# EAGLE library part IS31FL3236A (library LED-Project)
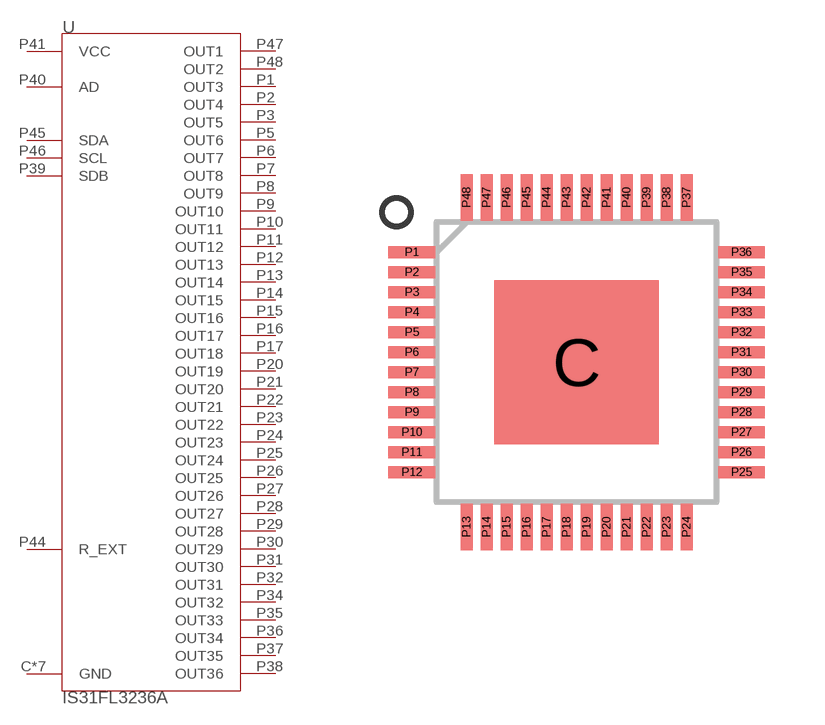
[diagram p0: symbol with the pads of ETQFP-48; footprint ETQFP-48]

Designator prefix U

## IS31FL3236A  [ETQFP-48]
C  GND
P1  OUT3  in
P2  OUT4  in
P3  OUT5  in
P4  GND
P5  OUT6  in
P6  OUT7  in
P7  OUT8  in
P8  OUT9  in
P9  OUT10  in
P10  OUT11  in
P11  OUT12  in
P12  OUT13  in
P13  OUT14  in
P14  OUT15  in
P15  OUT16  in
P16  OUT17  in
P17  OUT18  in
P18  GND
P19  GND
P20  OUT19  in
P21  OUT20  in
P22  OUT21  in
P23  OUT22  in
P24  OUT23  in
P25  OUT24  in
P26  OUT25  in
P27  OUT26  in
P28  OUT27  in
P29  OUT28  in
P30  OUT29  in
P31  OUT30  in
P32  OUT31  in
P33  GND
P34  OUT32  in
P35  OUT33  in
P36  OUT34  in
P37  OUT35  in
P38  OUT36  in
P39  SDB
P40  AD
P41  VCC
P42  GND
P43  GND
P44  R_EXT
P45  SDA
P46  SCL
P47  OUT1  in
P48  OUT2  in

## Footprint ETQFP-48 (pad centres in mm)
smd 4.11 x 4.11: C 0,0
smd 1.17 x 0.3: P1 -4.12,2.75; P2 -4.12,2.25; P3 -4.12,1.75; P4 -4.12,1.25; P5 -4.12,0.75; P6 -4.12,0.25; P7 -4.12,-0.25; P8 -4.12,-0.75; P9 -4.12,-1.25; P10 -4.12,-1.75; P11 -4.12,-2.25; P12 -4.12,-2.75; P25 4.12,-2.75; P26 4.12,-2.25; P27 4.12,-1.75; P28 4.12,-1.25; P29 4.12,-0.75; P30 4.12,-0.25; P31 4.12,0.25; P32 4.12,0.75; P33 4.12,1.25; P34 4.12,1.75; P35 4.12,2.25; P36 4.12,2.75
smd 0.3 x 1.17: P13 -2.75,-4.12; P14 -2.25,-4.12; P15 -1.75,-4.12; P16 -1.25,-4.12; P17 -0.75,-4.12; P18 -0.25,-4.12; P19 0.25,-4.12; P20 0.75,-4.12; P21 1.25,-4.12; P22 1.75,-4.12; P23 2.25,-4.12; P24 2.75,-4.12; P37 2.75,4.12; P38 2.25,4.12; P39 1.75,4.12; P40 1.25,4.12; P41 0.75,4.12; P42 0.25,4.12; P43 -0.25,4.12; P44 -0.75,4.12; P45 -1.25,4.12; P46 -1.75,4.12; P47 -2.25,4.12; P48 -2.75,4.12